# EAGLE library part DCM4623-HSTOPSIDELONG (library Vicor)
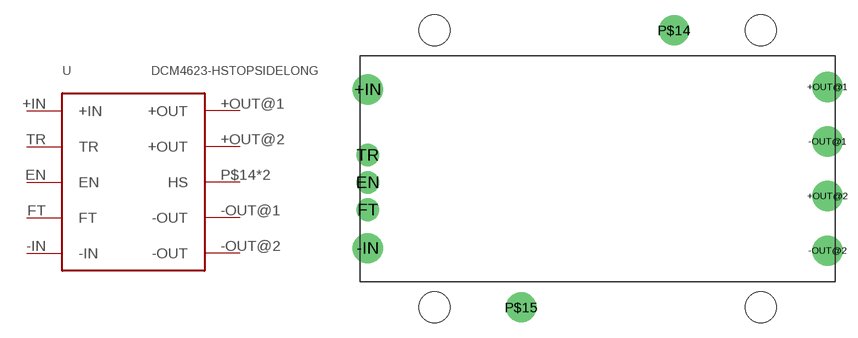
[diagram p1: symbol with the pads of DCM4623-HTOPSIDELONG; footprint DCM4623-HTOPSIDELONG]

Designator prefix U

## DCM4623-HSTOPSIDELONG  [DCM4623-HTOPSIDELONG]
+IN  +IN
+OUT@1  +OUT
+OUT@2  +OUT
-IN  -IN
-OUT@1  -OUT
-OUT@2  -OUT
EN  EN
FT  FT
P$14  HS
P$15  HS
TR  TR

## Footprint DCM4623-HTOPSIDELONG (pad centres in mm)
drill 2.032: +IN -23.19,8; +OUT@1 23.19,8.25; +OUT@2 23.19,-2.75; -IN -23.19,-8; -OUT@1 23.19,2.75; -OUT@2 23.19,-8.25
drill 1.524: EN -23.19,-1.38; FT -23.19,-4.13; TR -23.19,1.38
drill 2.03: P$14 7.71,13.97; P$15 -7.71,-13.97
hole 3.1 at -16.47,13.97
hole 3.1 at 16.47,13.97
hole 3.1 at -16.47,-13.97
hole 3.1 at 16.47,-13.97